# Altium schematic symbol library Logic Translators.SchLib: 1 symbol
Pins are listed as number, name and electrical type; pins without a type are passive.

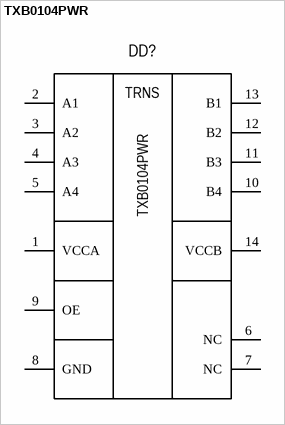
[diagram p0: symbol TXB0104PWR]

## TXB0104PWR
designator DD?
Translator 4Ch BiDir 1.2V-3.6V / 1.65V-5.5V; Manufacturer: Texas Instruments; Group: Digital; Chanels: 4; Data rate: 100Mbps; Component: Logic Translator; Package: TSSOP-14; Part name: TXB0104PWR; Voltage supply input: 1.2V - 3.6V; Operating temperature: -40°C +85°C; Height: 1.1mm; Dimension: 5.10mm x 6.60mm; Mounting type: Surface mount; Voltage supply output: 1.65V - 5.5V
footprint TSSOP-14
pins: 1 VCCA, 2 A1, 3 A2, 4 A3, 5 A4, 6 NC, 7 NC, 8 GND, 9 OE, 10 B4, 11 B3, 12 B2, 13 B1, 14 VCCB
text: TRNS